# Altium footprint library PCB - PASSIVES - IND 0402_1005 RF WW.PCBLIB: 1 footprints
Each footprint in its own frame and in the unit in brackets; x right, y up, seen from the top. Pads: shape width x height; smd on the part's side, far side on the other; paste and mask are expansions set on the pad; w line width, h text height; cw(c..) or ccw(c..) is an arc to the next point about the centre after c.
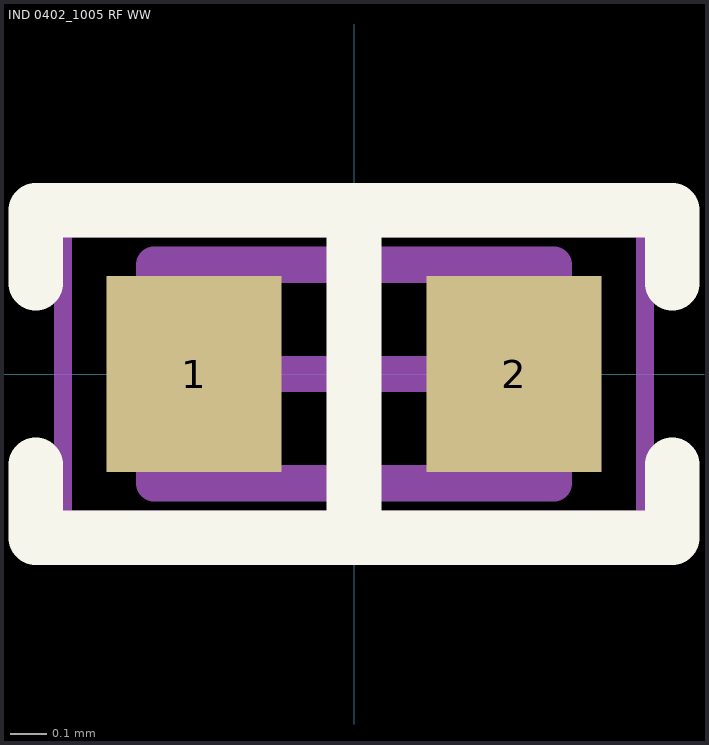
[diagram p0: the footprint, top view; thin cyan lines are the x and y axes]

## IND 0402_1005 RF WW [mm] "Chip Inductor, 2-Leads, Body 1.00x0.50mm, IPC High Density"
height 0.6
pads (2):
  rect 0.48x0.54 smd: 1(-0.44,0) 2(0.44,0)
Top Overlay:
  lines w0.15: -0.875,-0.25 -0.875,-0.45 0.875,-0.45 0.875,-0.25 ; -0.875,0.25 -0.875,0.45 0.875,0.45 0.875,0.25 ; 0,-0.45 0,0.45
Mechanical 13:
  lines w0.1: -0.55,-0.3 0.55,-0.3 0.55,0.3 -0.55,0.3 -0.55,-0.3
Mechanical 15:
  lines w0.05: -0.8,-0.4 0.8,-0.4 0.8,0.4 -0.8,0.4 -0.8,-0.4
  lines w0.1: -0.3,0 0.3,0 ; 0,-0.3 0,0.3
3D body "IND-WireWound_TOP.STEP": height 0.51, standoff 0.26, extent -0.5,-0.287 0.5,0.287
3D body "IND-WireWound.STEP": height 0.5, standoff 0, extent -0.5,-0.276 0.5,0.277